# Altium schematic symbol library FXL0650.SchLib: 1 symbol
Pins are listed as number, name and electrical type; pins without a type are passive.

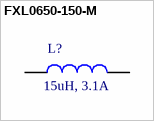
[diagram p0: symbol FXL0650-150-M]

## FXL0650-150-M
designator L?, comment 15uH, 3.1A
3.1A 15uH Integrated molded inductor ±20% 4A SMD,6.6x7mm Power Inductors ROHS; Manufacturer Part Number: FXL0650-150-M; Manufacturer: cjiang; DC Resistance max.: 0.09Ohm; Rated Voltage: 80VDC; ComponentLink1Description: Datasheet; ComponentLink1URL: https://www.lcsc.com/datasheet/lcsc_datasheet_2404260921_cjiang--Changjiang-Microelectronics-Tech-FXL0650-150-M_C475522.pdf; Rated Current: 3.1A; Inductance: 15uH; Operating Temperature: -40 to +125degC; Packaging: Tape and Reel; Saturation Current: 4A; Size: 0650; Self Resonant Frequency: N/A; DC Resistance typ.: N/A; Supplier 1 URL: N/A; Supplier 3 URL: N/A; Value: 15uH, 3.1A; Supplier 2 URL: N/A; LCSC Part #: C475522; Mount: SMD/SMT; Supplier 1: Mouser; Supplier 1 Part Number: N/A; Supplier 2: Digi-Key; Supplier 2 Part Number: N/A; Supplier 3: thegioiic; Supplier 3 Part Number: N/A
footprint FXL0650 (Precision Wire Wound Inductor, 2-Leads, Body 7.00x6.60mm, IPC Medium Density)
pins: 1, 2